# Altium integrated library Reguladores.IntLib: 21 symbols
Pins are listed as number, name and electrical type; pins without a type are passive.

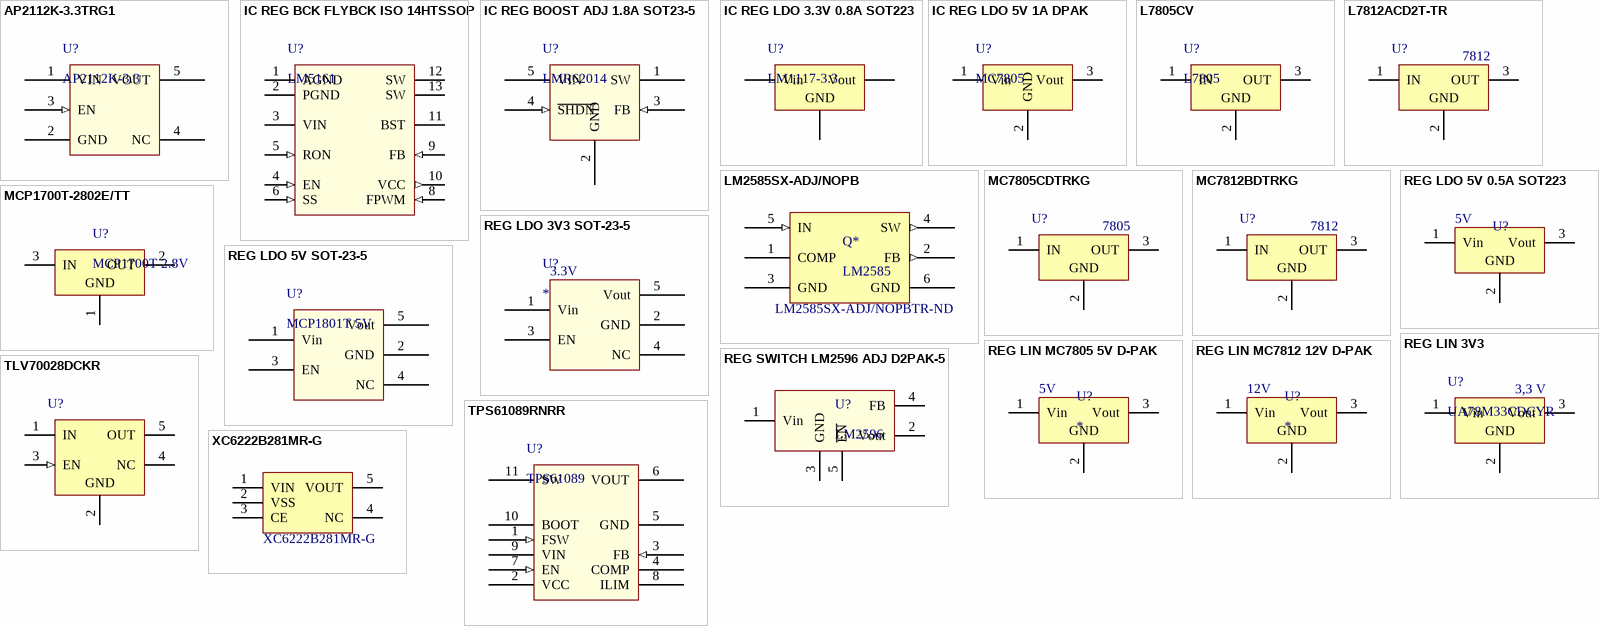
[diagram p0: symbols AP2112K-3.3TRG1 to XC6222B281MR-G]

## AP2112K-3.3TRG1
designator U?, comment AP2112K-3.3
IC REG LDO 3.3V 0.6A SOT25; Manufacturer: Diodes Incorporated; Manufacturer Part Number: AP2112K-3.3TRG1; Regulator Topology: Positive Fixed; Current - Output: 600mA; Voltage - Dropout (Typical): 0.25V @ 600mA; Number of Regulators: 1; Voltage - Input: Up to 6V; Supplier 1: Digi-Key; RoHS: RoHS Compliant; Category: Integrated Circuits (ICs); Stock 1: 72003; Pricing 1: 1=0.48, 10=0.362, 100=0.2258, 500=0.15436, 1000=0.11866 (USD); Packaging: Cut Tape (CT); Voltage - Output: 3.3V; Current - Limit (Min): -; Operating Temperature: -40°C ~ 85°C; Mounting Type: Surface Mount; Package / Case: SC-74A, SOT-753; Supplier Device Package: SOT-23-5; ComponentLink1URL: http://www.diodes.com/_files/datasheets/AP2112.pdf; ComponentLink1Description: http://www.diodes.com/_files/datasheets/AP2112.pdf; Supplier Part Number 1: AP2112K-3.3TRG1DICT-ND
footprint SOT23-5_N (SOT23-5, 5-Leads, Body 2.95x1.6mm, Pitch 0.95mm, IPC Medium Density)
pins: 1 VIN (power), 2 GND (power), 3 EN (in), 4 NC, 5 VOUT (power)

## IC REG BCK FLYBCK ISO 14HTSSOP
designator U?, comment LM5161
IC REG BCK FLYBCK ISO 14HTSSOP; Manufacturer: Texas Instruments; Manufacturer Part Number: LM5161PWPT; Function: Step-Down; Output Configuration: Positive, Isolation Capable; Topology: Buck, Flyback; Output Type: Adjustable; Number of Outputs: 1; Voltage - Input (Min): 4.5V; Voltage - Input (Max): 100V; Voltage - Output (Min/Fixed): 2V; Voltage - Output (Max): 92V; Current - Output: 1A; Frequency - Switching: 50kHz ~ 1MHz; Synchronous Rectifier: Yes; Supplier 1: Digi-Key; RoHS: RoHS Compliant; Category: Integrated Circuits (ICs); Stock 1: 245; Pricing 1: 1=4.8, 10=4.312, 100=3.5376 (USD); Packaging: Digi-Reel®; Part Status: Active; Operating Temperature: -40°C ~ 125°C (TJ); Mounting Type: Surface Mount; Package / Case: 14-TSSOP (0.173", 4.40mm Width) Exposed Pad; Supplier Device Package: 14-HTSSOP; ComponentLink1URL: http://www.ti.com/lit/ds/symlink/lm5161.pdf; ComponentLink1Description: http://www.ti.com/lit/ds/symlink/lm5161.pdf; Supplier Part Number 1: 296-44860-6-ND
footprint HTSSOP 14 TPAD N (TSOP, 14-Leads, Body 5,00x4,40mm, Pitch 0,65mm, Thermal Pad 3,10x3,00mm, IPC Medium Density)
pins: 1 AGND (power), 2 PGND (power), 3 VIN (power), 4 EN (in), 5 RON (in), 6 SS (in), 7 NC hidden, 8 FPWM (in), 9 FB (in), 10 VCC (out), 11 BST, 12 SW (power), 13 SW (power), 14 NC hidden, 15 EP hidden to GND

## IC REG BOOST ADJ 1.8A SOT23-5
designator U?, comment LMR62014
IC REG BOOST ADJ 1.8A SOT23-5; Manufacturer: Texas Instruments; Manufacturer Part Number: LMR62014XMF/NOPB; Function: Step-Up; Output Configuration: Positive; Output Type: Adjustable; Number of Outputs: 1; Voltage - Input (Min): 2.7V; Voltage - Input (Max): 14V; Voltage - Output (Min/Fixed): 3V; Voltage - Output (Max): 20V; Current - Output: 1.8A (Switch); Frequency - Switching: 1.6MHz; Synchronous Rectifier: No; Supplier 1: Digi-Key; RoHS: RoHS Compliant; Category: Integrated Circuits (ICs); Stock 1: 13608; Pricing 1: 1=1.68, 10=1.505, 100=1.1732, 500=0.9702, 1000=0.61875 (USD); Packaging: Cut Tape (CT); Part Status: Active; Topology: Boost; Operating Temperature: -40°C ~ 125°C (TJ); Mounting Type: Surface Mount; Package / Case: SC-74A, SOT-753; Supplier Device Package: SOT-23-5; ComponentLink1URL: http://www.ti.com/lit/ds/symlink/lmr62014.pdf; ComponentLink1Description: http://www.ti.com/lit/ds/symlink/lmr62014.pdf; Supplier Part Number 1: LMR62014XMF/NOPBCT-ND
footprint SOT23-5 N
pins: 1 SW, 2 GND (power), 3 FB (in), 4 ~{SHDN} (in), 5 VIN (power)

## IC REG LDO 3.3V 0.8A SOT223
designator U?, comment LM1117-3.3
IC REG LDO 3.3V 0.8A SOT223; Manufacturer: Texas Instruments (TI); Manufacturer Part Number: LM1117IMPX-3.3/NOPB; Dropout Voltage@Current (Max): 1.3@100mA/1.35@500mA; Dropout Voltage@Current (Typ): 1.1@100mA/1.15@500mA; Regulator Output Type: Fixed; Polarity Type: Positive; Number of Outputs: 1; Input Voltage: 15V; Output Current: 800mA; Load Regulation: 1mV; Output Voltage Accuracy: ±1%; Quiescent Current (Max): 15mA; Supplier 1: Digikey; Stock 1: 30275; Pricing 1: 1=1.04, 10=0.927, 100=0.7229, 500=0.5978, 1000=0.4728 (USD); Topology: LDO; Voltage Regulator Type: LDO; Output Voltage: 3.3V; Package Type: SOT-223; Packaging: Tape and Reel; Line Regulation: 1mV; Operating Temp Range: -40C to 125C; Operating Temperature Classification: Automotive; Pin Count: 3 +Tab; Mounting: Surface Mount; ComponentLink1URL: https://datasheet.ciiva.com/49047/1882372-49047126.pdf; ComponentLink1Description: https://datasheet.ciiva.com/49047/1882372-49047126.pdf; ComponentLink2URL: https://datasheet.ciiva.com/46386/1882372-46386044.pdf; ComponentLink2Description: https://datasheet.ciiva.com/46386/1882372-46386044.pdf; Supplier Part Number 1: LM1117IMPX-3.3/NOPBDKR-ND
footprint SOT223 M (SOT223, 4-Leads, Body 6,50x7,00mm (avg), Pitch 2,30mm, IPC Low Density)
pins: 1 GND, 2 Vout, 3 Vin

## IC REG LDO 5V 1A DPAK
designator U?, comment MC7805
IC REG LDO 5V 1A DPAK; Manufacturer: ON Semiconductor; Manufacturer Part Number: MC7805BDTRKG; Regulator Topology: Positive Fixed; Voltage - Dropout (Typical): 2V @ 1A; Number of Regulators: 1; Voltage - Input: Up to 35V; Supplier 1: Digi-Key; RoHS: RoHS Compliant; Category: Integrated Circuits (ICs); Stock 1: 43722; Pricing 1: 1=0.65, 10=0.555, 100=0.4147, 500=0.32584, 1000=0.25179 (USD); Packaging: Cut Tape (CT); Part Status: Active; Voltage - Output: 5V; Current - Output: 1A; Current - Limit (Min): -; Operating Temperature: -40°C ~ 125°C; Mounting Type: Surface Mount; Package / Case: TO-252-3, DPak (2 Leads + Tab), SC-63; Supplier Device Package: DPAK-3; ComponentLink1URL: http://www.onsemi.com/pub_link/Collateral/MC7800-D.PDF; ComponentLink1Description: http://www.onsemi.com/pub_link/Collateral/MC7800-D.PDF; Supplier Part Number 1: MC7805BDTRKGOSCT-ND
footprint DPAK (TO252-3) N (D-PAK, 3-Pads, Body 6,21x6,73mm (max), IPC Medium Density)
pins: 1 Vin, 2 GND, 3 Vout

## L7805CV
designator U?, comment L7805
Linear Voltage Regulators 5.0V 1.0A Positive; Manufacturer: STMicroelectronics; Manufacturer Part Number: L7805CV; Input Voltage MAX: 35 V; Number of Outputs: 1; Output Current: 1.5 A; Output Type: Fixed; Output Voltage: 5 V; PSRR / Ripple Rejection - Typ: 62 dB; Input Voltage MIN: 7 V; Line Regulation: 100 mV; Supplier 1: Mult Comercial; RoHS: RoHS Compliant; Category: Linear Voltage Regulators; Stock 1: 26176; Pricing 1: 1=1.100 (BRL); Package / Case: TO-220; Packaging: Tube; Series: L7805; Brand: STMicroelectronics; Mounting Style: Through Hole; Load Regulation: 100 mV; Maximum Operating Temperature: + 125 C; Minimum Operating Temperature: 0 C; Polarity: Positive; Standard Pack Qty: 1000; RoHS - Mouser: Y; Minimum Order Quantity: 1; Reeling: False; ComponentLink1URL: http://loja.multcomercial.com.br/regulador-de-tens-o-linear-l7805cv-5v-1a-positivo-stmicroelectronics-cod-loja-03.html; ComponentLink1Description: http://loja.multcomercial.com.br/regulador-de-tens-o-linear-l7805cv-5v-1a-positivo-stmicroelectronics-cod-loja-03.html; Supplier Part Number 1: Regulador de Tensão Linear L7805CV 5V 1A Positivo TO220 - STMicroelectronics - Cód. Loja 03
footprint TO220AB
pins: 1 IN (power), 2 GND (power), 3 OUT (power)

## L7812ACD2T-TR
designator U?  value 7812  (hidden comment: L7812ACD2T-TR)
Linear Voltage Regulators 12V 1.0A Positive; Manufacturer: STMicroelectronics; Input Voltage MAX: 35 V; Number of Outputs: 1; Output Current: 1.5 A; Output Type: Fixed; PSRR / Ripple Rejection - Typ: 60 dB; Input Voltage MIN: 14 V; Line Regulation: 120 mV; Load Regulation: 100 mV; Supplier 1: Mouser; Manufacturer Part Number: L7812ACD2T-TR; RoHS: RoHS Compliant; Category: Linear Voltage Regulators; Stock 1: 2800; Pricing 1: 1=1.25, 10=0.965, 100=0.624, 1000=0.499, 2000=0.420, 10000=0.405, 25000=0.391 (AUD); Output Voltage: 12 V; Package / Case: D2PAK; Packaging: Reel; Series: L7812; Brand: STMicroelectronics; Mounting Style: SMD/SMT; Maximum Operating Temperature: + 125 C; Minimum Operating Temperature: 0 C; Polarity: Positive; Product Category: Voltage Regulators; Standard Pack Qty: 1000; RoHS - Mouser: Y; Minimum Order Quantity: 1; Reeling: True; ComponentLink1URL: http://www.mouser.com/ds/2/389/CD00000444-249828.pdf; ComponentLink1Description: http://www.mouser.com/ds/2/389/CD00000444-249828.pdf; Supplier Part Number 1: 511-L7812ACD2T-TR
footprint D2PAK
pins: 1 IN (power), 2 GND (power), 3 OUT (power)

## LM2585SX-ADJ/NOPB
designator Q*, comment LM2585  Supplier Part Number 1: LM2585SX-ADJ/NOPBTR-ND
IC REG MULTI CONFIG ADJ 3A TO263; Manufacturer: Texas Instruments; Manufacturer Part Number: LM2585SX-ADJ/NOPB; Function: Step-Up, Step-Up/Step-Down; Output Configuration: Positive; Topology: Boost, Flyback, Forward Converter; Output Type: Adjustable; Number of Outputs: 1; Voltage - Input (Min): 4V; Voltage - Input (Max): 40V; Voltage - Output (Min/Fixed): 1.23V; Voltage - Output (Max): 60V; Current - Output: 3A (Switch); Frequency - Switching: 100kHz; Synchronous Rectifier: No; Supplier 1: Digi-Key; RoHS: RoHS Compliant; Category: Integrated Circuits (ICs); Stock 1: 1000; Pricing 1: 500=4.185, 1000=3.645, 2500=3.51 (USD); Packaging: Tape & Reel (TR); Part Status: Active; Operating Temperature: -40°C ~ 125°C (TJ); Mounting Type: Surface Mount; Package / Case: TO-263-6, D²Pak (5 Leads + Tab), TO-263BA; Supplier Device Package: DDPAK/TO-263-5; ComponentLink1URL: http://www.ti.com/lit/ds/symlink/lm2585.pdf; ComponentLink1Description: http://www.ti.com/lit/ds/symlink/lm2585.pdf
footprint DPAK228P1435X458-5N (D2-PAK, 5-Pads, Body 7,42x8,44mm (max), IPC Medium Density)
pins: 1 COMP, 2 FB (out), 3 GND, 4 SW (out), 5 IN (in), 6 GND

## MC7805CDTRKG
designator U?  value 7805  (hidden comment: MC7805CDTRKG)
Linear Voltage Regulators 5V 1A Postive; Manufacturer: ON Semiconductor; Input Voltage MAX: 35 V; Number of Outputs: 1; Output Type: Fixed; PSRR / Ripple Rejection - Typ: 83 dB; Input Voltage MIN: 7 V; Line Regulation: 20 mV; Load Regulation: 25 mV; Polarity: Positive; Supplier 1: Mouser; Manufacturer Part Number: MC7805CDTRKG; RoHS: RoHS Compliant; Category: Linear Voltage Regulators; Stock 1: 4481; Pricing 1: 1=0.921, 10=0.716, 100=0.462, 1000=0.368, 2500=0.312, 10000=0.300, 25000=0.288, 50000=0.284 (AUD); Output Current: 1 A; Output Voltage: 5 V; Package / Case: DPAK-3; Packaging: Reel; Series: MC7805; Brand: ON Semiconductor; Mounting Style: SMD/SMT; Maximum Operating Temperature: + 125 C; Minimum Operating Temperature: 0 C; Product Category: Linear Regulators- General Purpose; Standard Pack Qty: 2500; RoHS - Mouser: Y; Minimum Order Quantity: 1; Reeling: True; ComponentLink1URL: http://www.mouser.com/ds/2/308/MC7800-D-94905.pdf; ComponentLink1Description: http://www.mouser.com/ds/2/308/MC7800-D-94905.pdf; Supplier Part Number 1: 863-MC7805CDTRKG
footprint D-PAK (D-PAK/TO-252-AA; 3 Leads (1 Cropped); Body 10.3 (inc. leads) x 6.7 mm (LxW max))
pins: 1 IN (power), 2 GND (power), 3 OUT (power)

## MC7812BDTRKG
designator U?  value 7812  (hidden comment: MC7812BDTRKG)
Linear Voltage Regulators 12V 1A Postive; Manufacturer: ON Semiconductor; Input Voltage MAX: 35 V; Number of Outputs: 1; Output Type: Fixed; PSRR / Ripple Rejection - Typ: 60 dB; Input Voltage MIN: 14 V; Line Regulation: 240 mV; Polarity: Positive; Supplier 1: Mouser; Manufacturer Part Number: MC7812BDTRKG; RoHS: RoHS Compliant; Category: Linear Voltage Regulators; Stock 1: 11236; Pricing 1: 1=0.995, 10=0.768, 100=0.496, 1000=0.396, 2500=0.334, 10000=0.322, 25000=0.310, 50000=0.304 (AUD); Output Current: 1 A; Output Voltage: 12 V; Package / Case: TO-252-3 (DPAK); Packaging: Reel; Series: MC7812; Brand: ON Semiconductor; Mounting Style: SMD/SMT; Load Regulation: 240 mV; Maximum Operating Temperature: + 125 C; Minimum Operating Temperature: - 40 C; Product Category: Linear Regulators- General Purpose; Standard Pack Qty: 2500; RoHS - Mouser: Y; Minimum Order Quantity: 1; Reeling: True; ComponentLink1URL: http://www.mouser.com/ds/2/308/MC7800-D-94905.pdf; ComponentLink1Description: http://www.mouser.com/ds/2/308/MC7800-D-94905.pdf; Supplier Part Number 1: 863-MC7812BDTRKG
footprint D-PAK (D-PAK/TO-252-AA; 3 Leads (1 Cropped); Body 10.3 (inc. leads) x 6.7 mm (LxW max))
pins: 1 IN (power), 2 GND (power), 3 OUT (power)

## MCP1700T-2802E/TT
designator U?, comment MCP1700T 2.8V
IC REG LDO 2.8V 0.25A SOT23-3; Manufacturer: Microchip; Manufacturer Part Number: MCP1700T-2802E/TT; Regulator Output Type: Fixed; Polarity Type: Positive; Number of Outputs: 1; Input Voltage (Min): 2.3V; Input Voltage: 6V; Output Current: 0.25(Min)A; Load Regulation: 1%; Line Regulation: 0.75%/V; Output Voltage Accuracy: ±2%; Dropout Voltage@Current (Max): 0.35@250mA; Dropout Voltage@Current (Typ): 0.178@250mA; Quiescent Current (Max): 4uA; Supplier 1: Mouser; Stock 1: 5660; Pricing 1: 1=0.4, 10=0.37, 50=0.31, 100=0.28, 1000=0.28, 10000=0.28 (USD); Voltage Regulator Type: LDO; Topology: LDO; Output Voltage: 2.8V; Package Type: SOT-23; Packaging: Tape and Reel; Operating Temp Range: -40C to 125C; Operating Temperature Classification: Automotive; Pin Count: 3; Mounting: Surface Mount; ComponentLink1URL: https://datasheet.ciiva.com/2055/21826b-2055089.pdf; ComponentLink1Description: https://datasheet.ciiva.com/2055/21826b-2055089.pdf; ComponentLink2URL: https://datasheet.ciiva.com/17364/jp011779-17364166.pdf; ComponentLink2Description: https://datasheet.ciiva.com/17364/jp011779-17364166.pdf; ComponentLink3URL: https://datasheet.ciiva.com/16450/filehandler-aspxddocname-en011779-16450300.pdf; ComponentLink3Description: https://datasheet.ciiva.com/16450/filehandler-aspxddocname-en011779-16450300.pdf; Supplier Part Number 1: 579-MCP1700T-2802ETT
footprint SOT23-3 M (SOT23, 3-Leads, Body 2,90x2,30mm, Pitch 0,95mm, IPC Low Density)
pins: 1 GND (power), 2 OUT (power), 3 IN (power)

## REG LDO 3V3 SOT-23-5
designator U?  Voltage - Output: 3.3V
Manufacturer: Texas Instruments; Manufacturer Part Number: TLV70233DBVR; Regulator Topology: Positive Fixed; Current - Output: 300mA; Number of Regulators: 1; Voltage - Input: Up to 5.5V; Current - Limit (Min): 320mA; Supplier 1: Digi-Key; RoHS: RoHS Compliant; Category: Integrated Circuits (ICs); Stock 1: 37839; Pricing 1: 1=0.57, 10=0.488, 100=0.3641, 500=0.28602, 1000=0.2205 (USD); Packaging: Cut Tape (CT); Voltage - Dropout (Typical): -; Operating Temperature: -40°C ~ 125°C; Mounting Type: Surface Mount; Package / Case: SC-74A, SOT-753; Supplier Device Package: SOT-23-5; ComponentLink1URL: http://www.ti.com/lit/ds/symlink/tlv702.pdf; ComponentLink1Description: http://www.ti.com/lit/ds/symlink/tlv702.pdf; Supplier Part Number 1: 296-32415-1-ND
footprint SOT23-5 (Regulador 3.3v)
pins: 1 Vin (power), 2 GND (power), 3 EN (power), 4 NC "4", 5 Vout (power)

## REG LDO 5V 0.5A SOT223
designator U?, comment UA78M05IDCYR  (value not drawn)
REG LDO 5V 0.5A SOT223; Manufacturer: Texas Instruments; Regulator Topology: Positive Fixed; Current - Output: 500mA; Voltage - Dropout (Typical): 2V @ 350mA; Number of Regulators: 1; Voltage - Input: 7 V ~ 25 V; Supplier 1: Digi-Key; Manufacturer Part Number: UA78M05IDCYR; RoHS: RoHS Compliant; Category: Integrated Circuits (ICs); Stock 1: 20360; Pricing 1: 1=0.62, 10=0.544, 100=0.416, 500=0.3296, 1000=0.264 (USD); Packaging: Cut Tape (CT); Part Status: Active; Voltage - Output: 5V; Current - Limit (Min): -; Operating Temperature: -40°C ~ 125°C; Mounting Type: Surface Mount; Package / Case: TO-261-4, TO-261AA; Supplier Device Package: SOT-223-4; ComponentLink1URL: http://www.ti.com/lit/ds/symlink/ua78m05.pdf; ComponentLink1Description: http://www.ti.com/lit/ds/symlink/ua78m05.pdf; Supplier Part Number 1: 296-17616-1-ND
footprint SOT-223
pins: 1 Vin, 2 GND, 3 Vout

## REG LDO 5V SOT-23-5
designator U?, comment MCP1801T 5V
LDO Voltage Regulators Hi PSRR 150 mA LDO Vin 10V maxVout 5.0V; Manufacturer: Microchip Technology; Manufacturer Part Number: MCP1801T-5002I/OT; Number of Outputs: 1 Output; Output Current: 150 mA; Output Type: Fixed; Quiescent Current: 50 uA; Dropout Voltage - Max: 90 mV at 30 mA; Voltage Regulation Accuracy: 2 %; Dropout Voltage: 0.06 V at 30 mA; Ib - Input Bias Current: 25 uA; Input Voltage MIN: + 2 V; Line Regulation: 0.2 % / V; Load Regulation: 50 mV; Pd - Power Dissipation: 0.25 W; Polarity: Positive; Supplier 1: Mouser; RoHS: RoHS Compliant; Category: LDO Voltage Regulators; Stock 1: 4989; Pricing 1: 1=0.460, 10=0.420, 25=0.350, 100=0.320, 250=0.298, 3000=0.298 (USD); Height: 1.3 mm (Max); Input Voltage MAX: 10 V; Length: 3.1 mm (Max); Output Voltage: 5 V; Package / Case: SOT-23-5; Packaging: Reel; Width: 1.8 mm (Max); Brand: Microchip Technology; Mounting Style: SMD/SMT; Maximum Operating Temperature: + 85 C; Minimum Operating Temperature: - 40 C; Standard Pack Qty: 3000; RoHS - Mouser: Y; Minimum Order Quantity: 1; Reeling: True; ComponentLink1URL: http://www.mouser.com/ds/2/268/22051D-474537.pdf; ComponentLink1Description: http://www.mouser.com/ds/2/268/22051D-474537.pdf; Supplier Part Number 1: 5.0V
footprint SOT23-5 (Regulador 3.3v)
pins: 1 Vin (power), 2 GND (power), 3 EN (power), 4 NC "4", 5 Vout (power)

## REG LIN 3V3
designator U?, comment UA78M33CDCYR
IC REG LDO 3.3V 0.5A SOT223; Manufacturer: Texas Instruments; Regulator Topology: Positive Fixed; Current - Output: 500mA; Voltage - Dropout (Typical): 2V @ 350mA; Number of Regulators: 1; Voltage - Input: 5.3 V ~ 25 V; Supplier 1: Digi-Key; Manufacturer Part Number: UA78M33CDCYR; RoHS: RoHS Compliant; Category: Integrated Circuits (ICs); Stock 1: 25213; Pricing 1: 1=0.58, 10=0.51, 100=0.39, 500=0.309, 1000=0.2475 (USD); Packaging: Cut Tape (CT); Part Status: Active; Voltage - Output: 3.3V; Current - Limit (Min): -; Operating Temperature: 0°C ~ 125°C; Mounting Type: Surface Mount; Package / Case: TO-261-4, TO-261AA; Supplier Device Package: SOT-223-4; ComponentLink1URL: http://www.ti.com/lit/ds/symlink/ua78m05.pdf; ComponentLink1Description: http://www.ti.com/lit/ds/symlink/ua78m05.pdf; Supplier Part Number 1: 296-13424-1-ND
footprint SOT-223
pins: 1 Vin, 2 GND, 3 Vout
text: 3,3 V

## REG LIN MC7805 5V D-PAK
designator U?  Voltage - Output: 5V
Manufacturer: ON Semiconductor; Manufacturer Part Number: MC7805BDTRKG; Regulator Topology: Positive Fixed; Current - Output: 1A; Voltage - Dropout (Typical): 2V @ 1A; Number of Regulators: 1; Voltage - Input: Up to 35V; Supplier 1: Digi-Key; RoHS: RoHS Compliant; Category: Integrated Circuits (ICs); Stock 1: 28163; Pricing 1: 1=0.65, 10=0.557, 100=0.4156, 500=0.32642, 1000=0.25165 (USD); Packaging: Cut Tape (CT); Current - Limit (Min): -; Operating Temperature: -40°C ~ 125°C; Mounting Type: Surface Mount; Package / Case: TO-252-3, DPak (2 Leads + Tab), SC-63; Supplier Device Package: DPAK-3; ComponentLink1URL: http://www.onsemi.com/pub_link/Collateral/MC7800-D.PDF; ComponentLink1Description: http://www.onsemi.com/pub_link/Collateral/MC7800-D.PDF; Supplier Part Number 1: MC7805BDTRKGOSCT-ND
footprint D2PAK
footprint DPAK-3 (D-PAK/TO-252-AA; 3 Leads (1 Cropped); Body 10.3 (inc. leads) x 6.7 mm (LxW max))
pins: 1 Vin, 2 GND, 3 Vout

## REG LIN MC7812 12V D-PAK
designator U?  Voltage - Output: 12V
Manufacturer: ON Semiconductor; Manufacturer Part Number: MC7812BDTRKG; Regulator Topology: Positive Fixed; Current - Output: 1A; Voltage - Dropout (Typical): 2V @ 1A; Number of Regulators: 1; Voltage - Input: Up to 35V; Supplier 1: Digi-Key; RoHS: RoHS Compliant; Category: Integrated Circuits (ICs); Stock 1: 2500; Pricing 1: 2500=0.24186, 5000=0.22518, 12500=0.21684, 25000=0.2085, 62500=0.20516, 125000=0.20016 (USD); Packaging: Tape & Reel (TR); Current - Limit (Min): -; Operating Temperature: -40°C ~ 125°C; Mounting Type: Surface Mount; Package / Case: TO-252-3, DPak (2 Leads + Tab), SC-63; Supplier Device Package: DPAK-3; ComponentLink1URL: http://www.onsemi.com/pub_link/Collateral/MC7800-D.PDF; ComponentLink1Description: http://www.onsemi.com/pub_link/Collateral/MC7800-D.PDF; Supplier Part Number 1: MC7812BDTRKGOSTR-ND
footprint D2PAK
pins: 1 Vin, 2 GND, 3 Vout

## REG SWITCH LM2596 ADJ D2PAK-5
designator U?, comment LM2596
Manufacturer: Texas Instruments; Manufacturer Part Number: LM2596SX-ADJ/NOPB; Function: Step-Down; Output Configuration: Positive; Topology: Buck; Output Type: Adjustable; Number of Outputs: 1; Voltage - Input (Min): 4.5V; Voltage - Input (Max): 40V; Voltage - Output (Min/Fixed): 1.2V; Voltage - Output (Max): 37V; Current - Output: 3A; Frequency - Switching: 150kHz; Synchronous Rectifier: No; Supplier 1: Digi-Key; RoHS: RoHS Compliant By Exemption; Category: Integrated Circuits (ICs); Stock 1: 3553; Pricing 1: 1=4.91, 10=4.41, 100=3.618 (USD); Packaging: Cut Tape (CT); Operating Temperature: -40°C ~ 125°C (TJ); Mounting Type: Surface Mount; Package / Case: TO-263-6, D²Pak (5 Leads + Tab), TO-263BA; Supplier Device Package: DDPAK/TO-263-5; ComponentLink1URL: http://www.ti.com/lit/ds/symlink/lm2596.pdf; ComponentLink1Description: http://www.ti.com/lit/ds/symlink/lm2596.pdf; Supplier Part Number 1: 296-35399-1-ND
footprint D2PAK-5
pins: 1 Vin (power), 2 Vout (power), 3 GND (power), 4 FB, 5 ~{EN}

## TLV70028DCKR
designator U?
Single Output LDO, 200 mA, Fixed 2.8 V Output, 2 to 5.5 V Input, with Low IQ, 5-pin SC70 (DCK), -40 to 125 degC, Green (RoHS & no Sb/Br); Manufacturer: Texas Instruments; PartNumber: TLV70028DCKR; Accuracy(%): 2; Fixed Output Options(V): 2.8; Iout(Max)(A): 0.2; Iq(Typ)(mA): 0.03; SubFamily: Single Channel LDO; Vdo(Typ)(mV): 175; Vin(Max)(V): 5.5; DatasheetVersion: SLVSA00D; PackageVersion: 4093553-3/G; PackageReference: DCK5; PackageDescription: 5-Pin Plastic Small-Outline, Body 2 x 1.25 mm, Pitch 0.65 mm; Supplier 1: Mouser; Supplier Part Number 1: 595-TLV70028DCKR; Eco-Plan: Green (RoHS & no Sb/Br); Vin(Min)(V): 2; Vout Adj(Max)(V): 2.8; Vout Adj(Min)(V): 2.8; Mounting Technology: Surface Mount; Code_JEDEC: MO-203; ComponentLink1Description: Manufacturer URL; ComponentLink1URL: http://www.ti.com/; ComponentLink2Description: Datasheet; ComponentLink2URL: http://www.ti.com/general/docs/lit/getliterature.tsp?genericPartNumber=TLV70028&fileType=pdf; ComponentLink3Description: Package Specification; ComponentLink3URL: http://www.ti.com/litv/pdf/mpds025f
footprint TI-DCK5_V (SOT23, 5-Leads, Body 2x1.25mm, Pitch 0.65mm)
pins: 1 IN (power) "Input supply voltage", 2 GND (power) "Ground", 3 EN (in) "Enable input", 4 NC "No connected", 5 OUT (power) "Regulated output voltage"

## TPS61089RNRR
designator U?, comment TPS61089
IC REG BOOST ADJ 7A SYNC 11VQFN; Manufacturer: Texas Instruments; Manufacturer Part Number: TPS61089RNRR; Function: Step-Up; Output Configuration: Positive; Output Type: Adjustable; Number of Outputs: 1; Voltage - Input (Min): 2.7V; Voltage - Input (Max): 12V; Voltage - Output (Min/Fixed): 4.5V; Voltage - Output (Max): 12.6V; Frequency - Switching: 200kHz ~ 2.2MHz; Synchronous Rectifier: Yes; Supplier 1: Digi-Key; RoHS: RoHS Compliant; Category: Integrated Circuits (ICs); Stock 1: 0; Pricing 1: 3000=2.025 (USD); Packaging: Tape & Reel (TR); Part Status: Active; Topology: Boost; Current - Output: 7A; Operating Temperature: -40°C ~ 125°C (TJ); Mounting Type: Surface Mount; Package / Case: 11-VFQFN; Supplier Device Package: 11-VQFN-HR (2.5x2); ComponentLink1URL: http://www.ti.com/lit/ds/symlink/tps61089.pdf; ComponentLink1Description: http://www.ti.com/lit/ds/symlink/tps61089.pdf; Supplier Part Number 1: TPS61089RNRR-ND
footprint QFN50P250X200X100-12N (QFN, 12-Leads, Body 2,50x2,00mm, Pitch 0,70mm/0,50mm, IPC Medium Density)
pins: 1 FSW (in), 2 VCC (power), 3 FB (in), 4 COMP, 5 GND (power), 6 VOUT (power), 7 EN (in), 8 ILIM, 9 VIN (power), 10 BOOT, 11 SW (power)

## XC6222B281MR-G
designator U?  Manufacturer Part Number: XC6222B281MR-G  (hidden comment: *)
IC REG LDO 2.8V 0.7A SOT25; Manufacturer: Torex; Regulator Topology: Positive Fixed; Current - Output: 700mA; Voltage - Dropout (Typical): 0.16V @ 300mA; Number of Regulators: 1; Voltage - Input: Up to 6V; Current - Limit (Min): 720mA; Online Catalog: 2.75V to 3V; Other Names: 893-1141-2 XC6222B281MRG; Supplier 1: Digi-Key; Stock 1: 2140; Pricing 1: 1=0.88, 10=0.768, 25=0.68, 100=0.5924, 250=0.5156, 500=0.4388, 1000=0.351 (USD); Standard Package: 3,000; Category: Integrated Circuits (ICs); Family: PMIC - Voltage Regulators - Linear; Series: -; Packaging: Tape & Reel (TR); Voltage - Output: 2.8V; Operating Temperature: -40°C ~ 85°C; Mounting Type: Surface Mount; Package / Case: SC-74A, SOT-753; Supplier Device Package: SOT-25; ComponentLink1URL: https://datasheet.ciiva.com/2048/xc6222-2048816.pdf; ComponentLink1Description: https://datasheet.ciiva.com/2048/xc6222-2048816.pdf; ComponentLink2URL: https://datasheet.ciiva.com/2048/xc6222-2048817.pdf; ComponentLink2Description: https://datasheet.ciiva.com/2048/xc6222-2048817.pdf; ComponentLink3URL: https://datasheet.ciiva.com/28427/xc6222-28427291.pdf; ComponentLink3Description: https://datasheet.ciiva.com/28427/xc6222-28427291.pdf; ComponentLink4URL: https://datasheet.ciiva.com/2048/xc6222-2048815.pdf; ComponentLink4Description: https://datasheet.ciiva.com/2048/xc6222-2048815.pdf; Supplier Part Number 1: 893-1141-6-ND
footprint SOT25-5
pins: 1 VIN, 2 VSS, 3 CE, 4 NC, 5 VOUT